# Altium footprint library 622 0xx 211 21.PcbLib: 7 footprints
Each footprint in its own frame and in the unit in brackets; x right, y up, seen from the top. Pads: shape width x height; smd on the part's side, far side on the other; paste and mask are expansions set on the pad; w line width, h text height; cw(c..) or ccw(c..) is an arc to the next point about the centre after c.
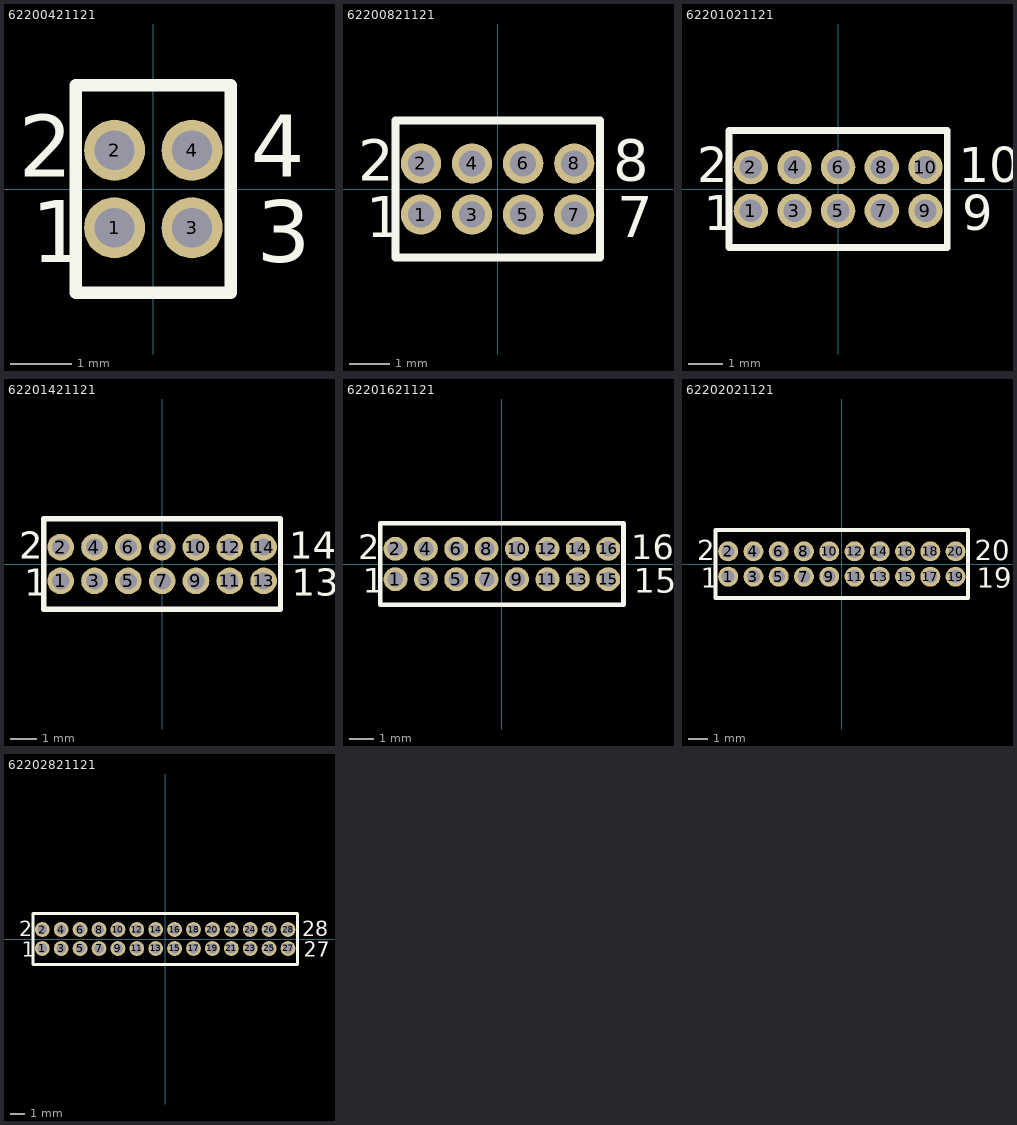
[diagram p0: the footprints below, top view; thin cyan lines are the x and y axes]

## 62200421121 [mm] "1.27 mm THT Dual Pin Header, 4p"
height 5.3
pads (4):
  round 1 hole 0.65: 1(-0.635,-0.635) 2(-0.635,0.635) 3(0.635,-0.635) 4(0.635,0.635)
Top Overlay:
  lines w0.2: -1.27,-1.7 1.27,-1.7 1.27,1.7 -1.27,1.7 -1.27,-1.7
  text "4" at 1.6,0.2 h1.02
  text "3" at 1.7,-1.2 h1.02
  text "2" at -2.2,0.2 h1.02
  text "1" at -2,-1.2 h1.02
3D body "62200421121.stp": height 5.33, standoff -2.27, extent -1.27,-1.7 1.27,1.7

## 62200821121 [mm] "1.27 mm THT Dual Pin Header, 8p"
height 5.3
pads (8):
  round 1 hole 0.65: 1(-1.905,-0.635) 2(-1.905,0.635) 3(-0.635,-0.635) 4(-0.635,0.635) 5(0.635,-0.635) 6(0.635,0.635) 7(1.905,-0.635) 8(1.905,0.635)
Top Overlay:
  lines w0.2: -2.54,-1.7 -2.54,1.7 2.54,1.7 2.54,-1.7 -2.54,-1.7
  text "8" at 2.87,0.2 h1.02
  text "7" at 2.97,-1.2 h1.02
  text "1" at -3.27,-1.2 h1.02
  text "2" at -3.47,0.2 h1.02
3D body "62200821121.stp": height 5.33, standoff -2.27, extent -2.54,-1.7 2.54,1.7

## 62201021121 [mm] "1.27 mm THT Dual Pin Header, 10p"
height 5.3
pads (10):
  round 1 hole 0.65: 1(-2.54,-0.635) 2(-2.54,0.635) 3(-1.27,-0.635) 4(-1.27,0.635) 5(0,-0.635) 6(0,0.635) 7(1.27,-0.635) 8(1.27,0.635) 9(2.54,-0.635) 10(2.54,0.635)
Top Overlay:
  lines w0.2: -3.175,-1.7 3.175,-1.7 3.175,1.7 -3.175,1.7 -3.175,-1.7
  text "2" at -4.105,0.2 h1.02
  text "1" at -3.905,-1.2 h1.02
  text "10" at 3.505,0.2 h1.02
  text "9" at 3.605,-1.2 h1.02
3D body "62201021121.stp": height 5.33, standoff -2.27, extent -3.175,-1.7 3.175,1.7

## 62201421121 [mm] "1.27 mm THT Dual Pin Header, 14p"
height 5.3
pads (14):
  round 1 hole 0.65: 1(-3.81,-0.635) 2(-3.81,0.635) 3(-2.54,-0.635) 4(-2.54,0.635) 5(-1.27,-0.635) 6(-1.27,0.635) 7(0,-0.635) 8(0,0.635) 9(1.27,-0.635) 10(1.27,0.635) 11(2.54,-0.635) 12(2.54,0.635) 13(3.81,-0.635) 14(3.81,0.635)
Top Overlay:
  lines w0.2: -4.445,-1.7 4.445,-1.7 4.445,1.7 -4.445,1.7 -4.445,-1.7
  text "13" at 4.875,-1.2 h1.02
  text "14" at 4.775,0.2 h1.02
  text "2" at -5.375,0.2 h1.02
  text "1" at -5.175,-1.2 h1.02
3D body "62201421121.stp": height 5.33, standoff -2.27, extent -4.445,-1.7 4.445,1.7

## 62201621121 [mm] "1.27 mm THT Dual Pin Header, 16p"
height 5.3
pads (16):
  round 1 hole 0.65: 1(-4.445,-0.635) 2(-4.445,0.635) 3(-3.175,-0.635) 4(-3.175,0.635) 5(-1.905,-0.635) 6(-1.905,0.635) 7(-0.635,-0.635) 8(-0.635,0.635) 9(0.635,-0.635) 10(0.635,0.635) 11(1.905,-0.635) 12(1.905,0.635) 13(3.175,-0.635) 14(3.175,0.635) 15(4.445,-0.635) 16(4.445,0.635)
Top Overlay:
  lines w0.2: -5.08,-1.7 -5.08,1.7 5.08,1.7 5.08,-1.7 -5.08,-1.7
  text "1" at -5.81,-1.2 h1.02
  text "2" at -6.01,0.2 h1.02
  text "15" at 5.51,-1.2 h1.02
  text "16" at 5.41,0.2 h1.02
3D body "62201621121.stp": height 5.33, standoff -2.27, extent -5.08,-1.7 5.08,1.7

## 62202021121 [mm] "1.27 mm THT Dual Pin Header, 20p"
height 5.3
pads (20):
  round 1 hole 0.65: 1(-5.715,-0.635) 2(-5.715,0.635) 3(-4.445,-0.635) 4(-4.445,0.635) 5(-3.175,-0.635) 6(-3.175,0.635) 7(-1.905,-0.635) 8(-1.905,0.635) 9(-0.635,-0.635) 10(-0.635,0.635) 11(0.635,-0.635) 12(0.635,0.635) 13(1.905,-0.635) 14(1.905,0.635) 15(3.175,-0.635) 16(3.175,0.635) 17(4.445,-0.635) 18(4.445,0.635) 19(5.715,-0.635) 20(5.715,0.635)
Top Overlay:
  lines w0.2: -6.35,-1.7 -6.35,1.7 6.35,1.7 6.35,-1.7 -6.35,-1.7
  text "20" at 6.68,0.2 h1.02
  text "19" at 6.78,-1.2 h1.02
  text "1" at -7.08,-1.2 h1.02
  text "2" at -7.28,0.2 h1.02
3D body "62202021121.stp": height 5.33, standoff -2.27, extent -6.35,-1.7 6.35,1.7

## 62202821121 [mm] "1.27 mm THT Dual Pin Header, 28p"
height 5.3
pads (28):
  round 1 hole 0.65: 1(-8.255,-0.635) 2(-8.255,0.635) 3(-6.985,-0.635) 4(-6.985,0.635) 5(-5.715,-0.635) 6(-5.715,0.635) 7(-4.445,-0.635) 8(-4.445,0.635) 9(-3.175,-0.635) 10(-3.175,0.635) 11(-1.905,-0.635) 12(-1.905,0.635) 13(-0.635,-0.635) 14(-0.635,0.635) 15(0.635,-0.635) 16(0.635,0.635) 17(1.905,-0.635) 18(1.905,0.635) 19(3.175,-0.635) 20(3.175,0.635) 21(4.445,-0.635) 22(4.445,0.635) 23(5.715,-0.635) 24(5.715,0.635) 25(6.985,-0.635) 26(6.985,0.635) 27(8.255,-0.635) 28(8.255,0.635)
Top Overlay:
  lines w0.2: -8.89,-1.7 8.89,-1.7 8.89,1.7 -8.89,1.7 -8.89,-1.7
  text "2" at -9.82,0.2 h1.02
  text "1" at -9.62,-1.2 h1.02
  text "28" at 9.22,0.2 h1.02
  text "27" at 9.32,-1.2 h1.02
3D body "62202821121.stp": height 5.33, standoff -2.27, extent -8.89,-1.7 8.89,1.7